# Altium footprint library 1760510000.PcbLib: 1 footprints
Each footprint in its own frame and in the unit in brackets; x right, y up, seen from the top. Pads: shape width x height; smd on the part's side, far side on the other; paste and mask are expansions set on the pad; w line width, h text height; cw(c..) or ccw(c..) is an arc to the next point about the centre after c.
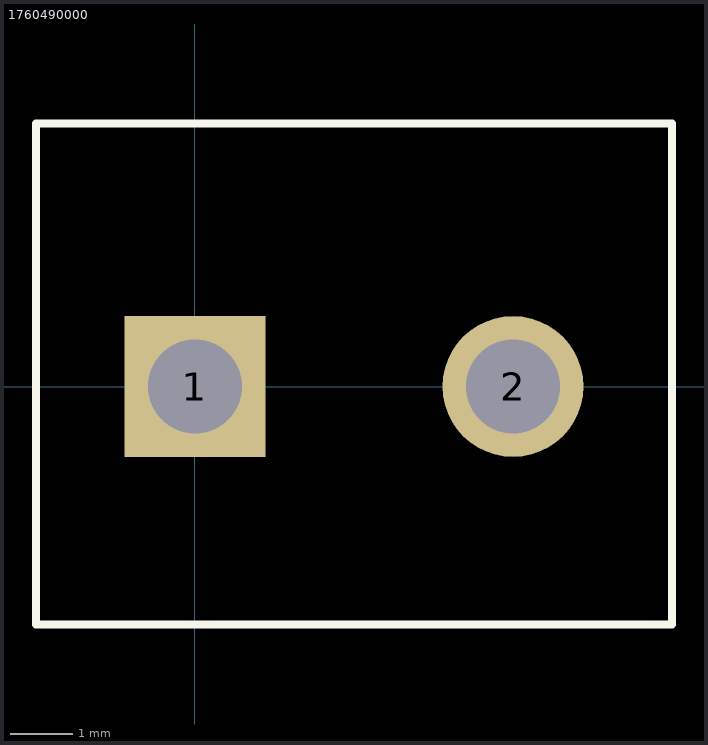
[diagram p0: the footprint, top view; thin cyan lines are the x and y axes]

## 1760490000 [mm]
pads (2):
  rect 2.25x2.25 hole 1.5 mask-25.4: 1(0,0)
  round 2.25 hole 1.5 mask-25.4: 2(5.08,0)
Top Overlay:
  lines w0.127: -2.54,-3.8 7.62,-3.8 7.62,4.2 -2.54,4.2 -2.54,-3.8
Top Solder:
  region: 5.08,1.236 4.76,1.193 4.462,1.07 4.206,0.874 4.01,0.618 3.887,0.32 3.844,0 3.887,-0.32 4.01,-0.618 4.206,-0.874 4.462,-1.07 4.76,-1.193 5.08,-1.236 5.4,-1.193 5.698,-1.07 5.954,-0.874 6.15,-0.618 6.273,-0.32 6.316,0 6.273,0.32 6.15,0.618 5.954,0.874 5.698,1.07 5.4,1.193
  region: -1.225,-1.225 1.225,-1.225 1.225,1.225 -1.225,1.225
Bottom Solder:
  region: 5.08,1.236 4.76,1.193 4.462,1.07 4.206,0.874 4.01,0.618 3.887,0.32 3.844,0 3.887,-0.32 4.01,-0.618 4.206,-0.874 4.462,-1.07 4.76,-1.193 5.08,-1.236 5.4,-1.193 5.698,-1.07 5.954,-0.874 6.15,-0.618 6.273,-0.32 6.316,0 6.273,0.32 6.15,0.618 5.954,0.874 5.698,1.07 5.4,1.193
  region: -1.225,-1.225 1.225,-1.225 1.225,1.225 -1.225,1.225